# Altium footprint library SM_IPC_C_0805.PcbLib: 1 footprints
Each footprint in its own frame and in the unit in brackets; x right, y up, seen from the top. Pads: shape width x height; smd on the part's side, far side on the other; paste and mask are expansions set on the pad; w line width, h text height; cw(c..) or ccw(c..) is an arc to the next point about the centre after c.
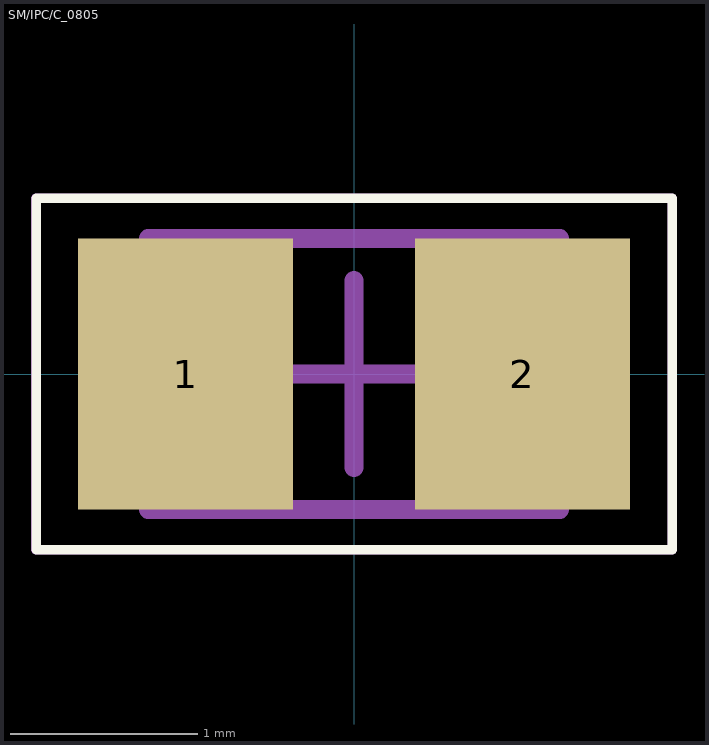
[diagram p0: the footprint, top view; thin cyan lines are the x and y axes]

## SM/IPC/C_0805 [mm]
pads (2):
  rect 1.15x1.45 smd: 1(-0.9,0) 2(0.9,0)
Top Overlay:
  lines w0.05: -1.7,-0.94 1.702,-0.94 1.702,0.94 -1.7,0.94 -1.7,-0.94
Mechanical 13:
  lines w0.1: -1.1,-0.725 1.1,-0.725 1.1,0.725 -1.1,0.725 -1.1,-0.725
Mechanical 15:
  lines w0.05: -1.702,-0.94 -1.702,0.94 1.702,0.94 1.702,-0.94 -1.702,-0.94
  lines w0.1: -0.5,0 0.5,0 ; 0,-0.5 0,0.5
3D body: height 1.35, standoff 0, extent 0.6,-0.725 1.1,0.725
3D body: height 1.35, standoff 0, extent -1.1,-0.725 -0.6,0.725
3D body: height 1.35, standoff 0, extent -0.6,-0.725 0.6,0.725